# Altium footprint library Solar_cell_foot_print.PcbLib: 1 footprints
Each footprint in its own frame and in the unit in brackets; x right, y up, seen from the top. Pads: shape width x height; smd on the part's side, far side on the other; paste and mask are expansions set on the pad; w line width, h text height; cw(c..) or ccw(c..) is an arc to the next point about the centre after c.
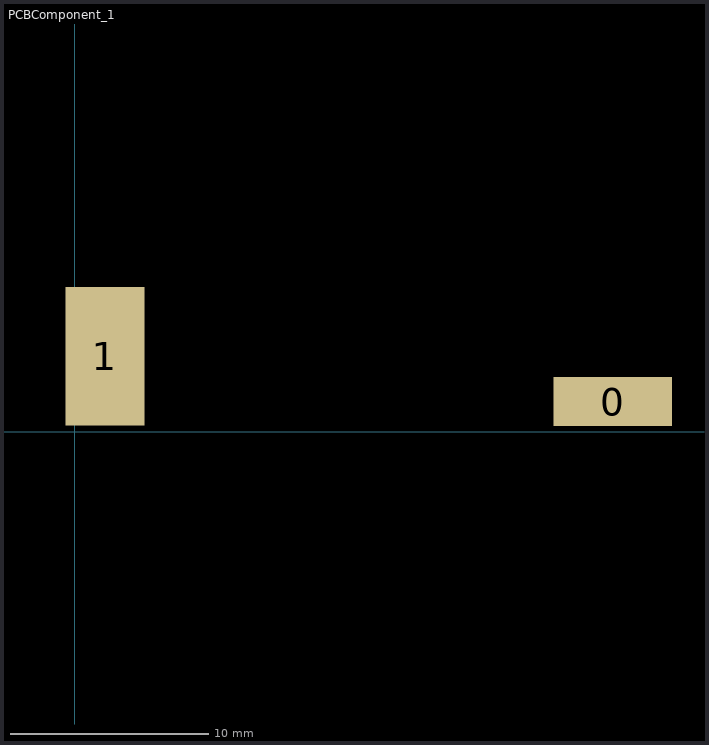
[diagram p0: the footprint, top view; thin cyan lines are the x and y axes]

## PCBComponent_1 [mil]
pads (2):
  rect 236.22x98.43 smd: 0(1070,60)
  rect 157.48x275 smd: 1(60,150)
3D body: height 9.26, standoff 2.84, extent 60,2.27 1095.43,397.73